# Altium footprint library Package.PcbLib: 3 footprints
Each footprint in its own frame and in the unit in brackets; x right, y up, seen from the top. Pads: shape width x height; smd on the part's side, far side on the other; paste and mask are expansions set on the pad; w line width, h text height; cw(c..) or ccw(c..) is an arc to the next point about the centre after c.
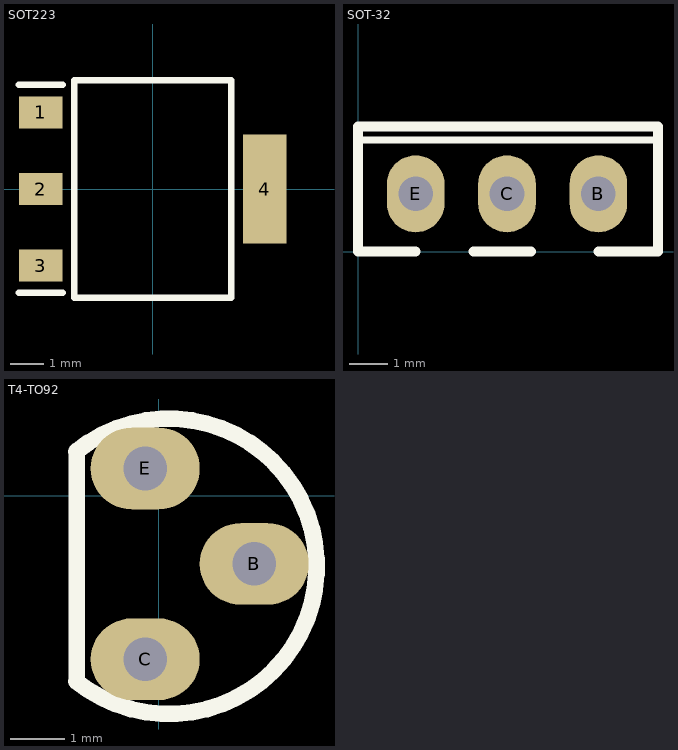
[diagram p0: the footprints below, top view; thin cyan lines are the x and y axes]

## SOT223 [mm]
pads (4):
  rect 1.3x0.95 smd: 1(-3.35,2.29) 2(-3.35,0) 3(-3.35,-2.29)
  rect 1.3x3.25 smd: 4(3.35,0)
Top Overlay:
  lines w0.2: -4,-3.108 -2.7,-3.108 ; -4,3.115 -2.7,3.115 ; -2.35,-3.252 -2.35,3.252 2.35,3.252 2.35,-3.252 -2.35,-3.252
Mechanical 8:
  lines w0.1: -1.752,-3.252 1.752,-3.252 ; -1.752,3.252 1.752,3.252
3D body "SW3dPS-sot-223.STEP": height 1.64, standoff -0.04, extent -3.466,-3.25 3.466,3.25

## SOT-32 [mm]
pads (3):
  oval 1.5x2 hole 0.9: B(6.25,1.5) C(3.875,1.5) E(1.5,1.5)
Top Overlay:
  lines w0.18: 0,2.9 7.8,2.9
  lines w0.254: 1.5,0 0,0 0,3.25 7.8,3.25 7.8,0 ; 3,0 4.5,0 ; 6.25,0 7.75,0

## T4-TO92 [mm]
pads (3):
  oval 2x1.5 hole 0.8: B(1.75,-1.25) C(-0.25,-3) E(-0.25,0.5)
Top Overlay:
  lines w0.305: -1.519,-3.401 ccw(c0.186,-1.295) -1.519,0.81 ; -1.507,-3.412 -1.507,0.821
3D body "TO-92 Formed Leads.stp": height 8.58, standoff -3, extent -1.464,-4.04 2.096,1.5